# Altium schematic symbol library EL-sense_Supervisor.SchLib: 7 symbols
Pins are listed as number, name and electrical type; pins without a type are passive.

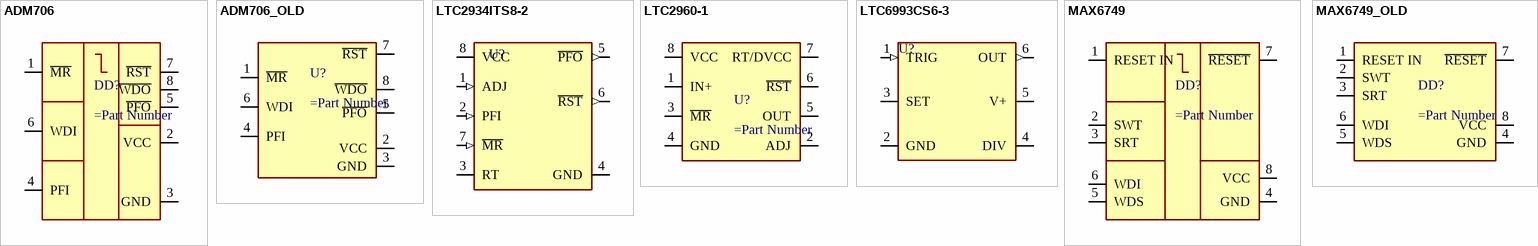
[diagram p0: symbols ADM706 to MAX6749_OLD]

## ADM706
designator DD?
pins: 1 ~{MR}, 2 VCC, 3 GND, 4 PFI, 5 ~{PFO}, 6 WDI, 7 ~{RST}, 8 ~{WDO}

## ADM706_OLD
designator U?
pins: 1 ~{MR}, 2 VCC, 3 GND, 4 PFI, 5 ~{PFO}, 6 WDI, 7 ~{RST}, 8 ~{WDO}

## LTC2934ITS8-2
designator U?
pins: 1 ADJ (in), 2 PFI (in), 3 RT, 4 GND (power), 5 ~{PFO} (out), 6 ~{RST} (out), 7 ~{MR} (in), 8 VCC (power)

## LTC2960-1
designator U?
pins: 1 IN+, 2 ADJ, 3 ~{MR}, 4 GND, 5 OUT, 6 ~{RST}, 7 RT/DVCC, 8 VCC

## LTC6993CS6-3
designator U?
pins: 1 TRIG (in), 2 GND (power), 3 SET, 4 DIV, 5 V+ (power), 6 OUT (out)

## MAX6749
designator DD?
pins: 1 RESET IN, 2 SWT, 3 SRT, 4 GND, 5 WDS, 6 WDI, 7 ~{RESET}, 8 VCC

## MAX6749_OLD
designator DD?
pins: 1 RESET IN, 2 SWT, 3 SRT, 4 GND, 5 WDS, 6 WDI, 7 ~{RESET}, 8 VCC